# Altium schematic symbol library MOSFET,P Ch,20V,2A.Schlib: 1 symbol
Pins are listed as number, name and electrical type; pins without a type are passive.

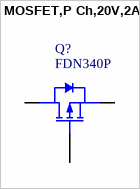
[diagram p0: symbol MOSFET,P Ch,20V,2A]

## MOSFET,P Ch,20V,2A
designator Q?, comment FDN340P
P-Channel 20V 2A (Ta) 500mW (Ta) Surface Mount SuperSOT-3
pins: 1 G, 2 S, 3 D